# Altium schematic symbol library conn3.SchLib: 1 symbol
Pins are listed as number, name and electrical type; pins without a type are passive.

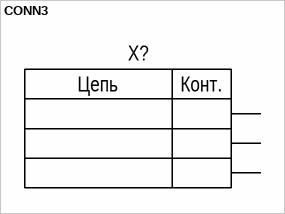
[diagram p0: symbol CONN3]

## CONN3
designator X?
pins: 1, 2, 3
text: Цепь; Конт.